# Altium schematic symbol library LiteOn.SchLib: 1 symbol
Pins are listed as number, name and electrical type; pins without a type are passive.

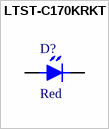
[diagram p0: symbol LTST-C170KRKT]

## LTST-C170KRKT
designator D?  Color: Red  (hidden comment: LTST-C170KRKT)
LED RED CLEAR 0805 SMD; Manufacturer: Lite-On Inc; Supplier 1: Digi-Key; Supplier Part Number 1: 160-1415-6-ND; Supplier 2: Mouser; Supplier Part Number 2: 859-LTST-C170KRKT; PartNumber: LTST-C170KRKT
footprint 0805 - LED (Chip Led 2-Leads, Body 2.0x1.3mm, IPC Medium Density)
pins: 1 A, 2 K